# Altium footprint library Connector.PcbLib: 240 footprints (part 1 of 15)
Each footprint in its own frame and in the unit in brackets; x right, y up, seen from the top. Pads: shape width x height; smd on the part's side, far side on the other; paste and mask are expansions set on the pad; w line width, h text height; cw(c..) or ccw(c..) is an arc to the next point about the centre after c.
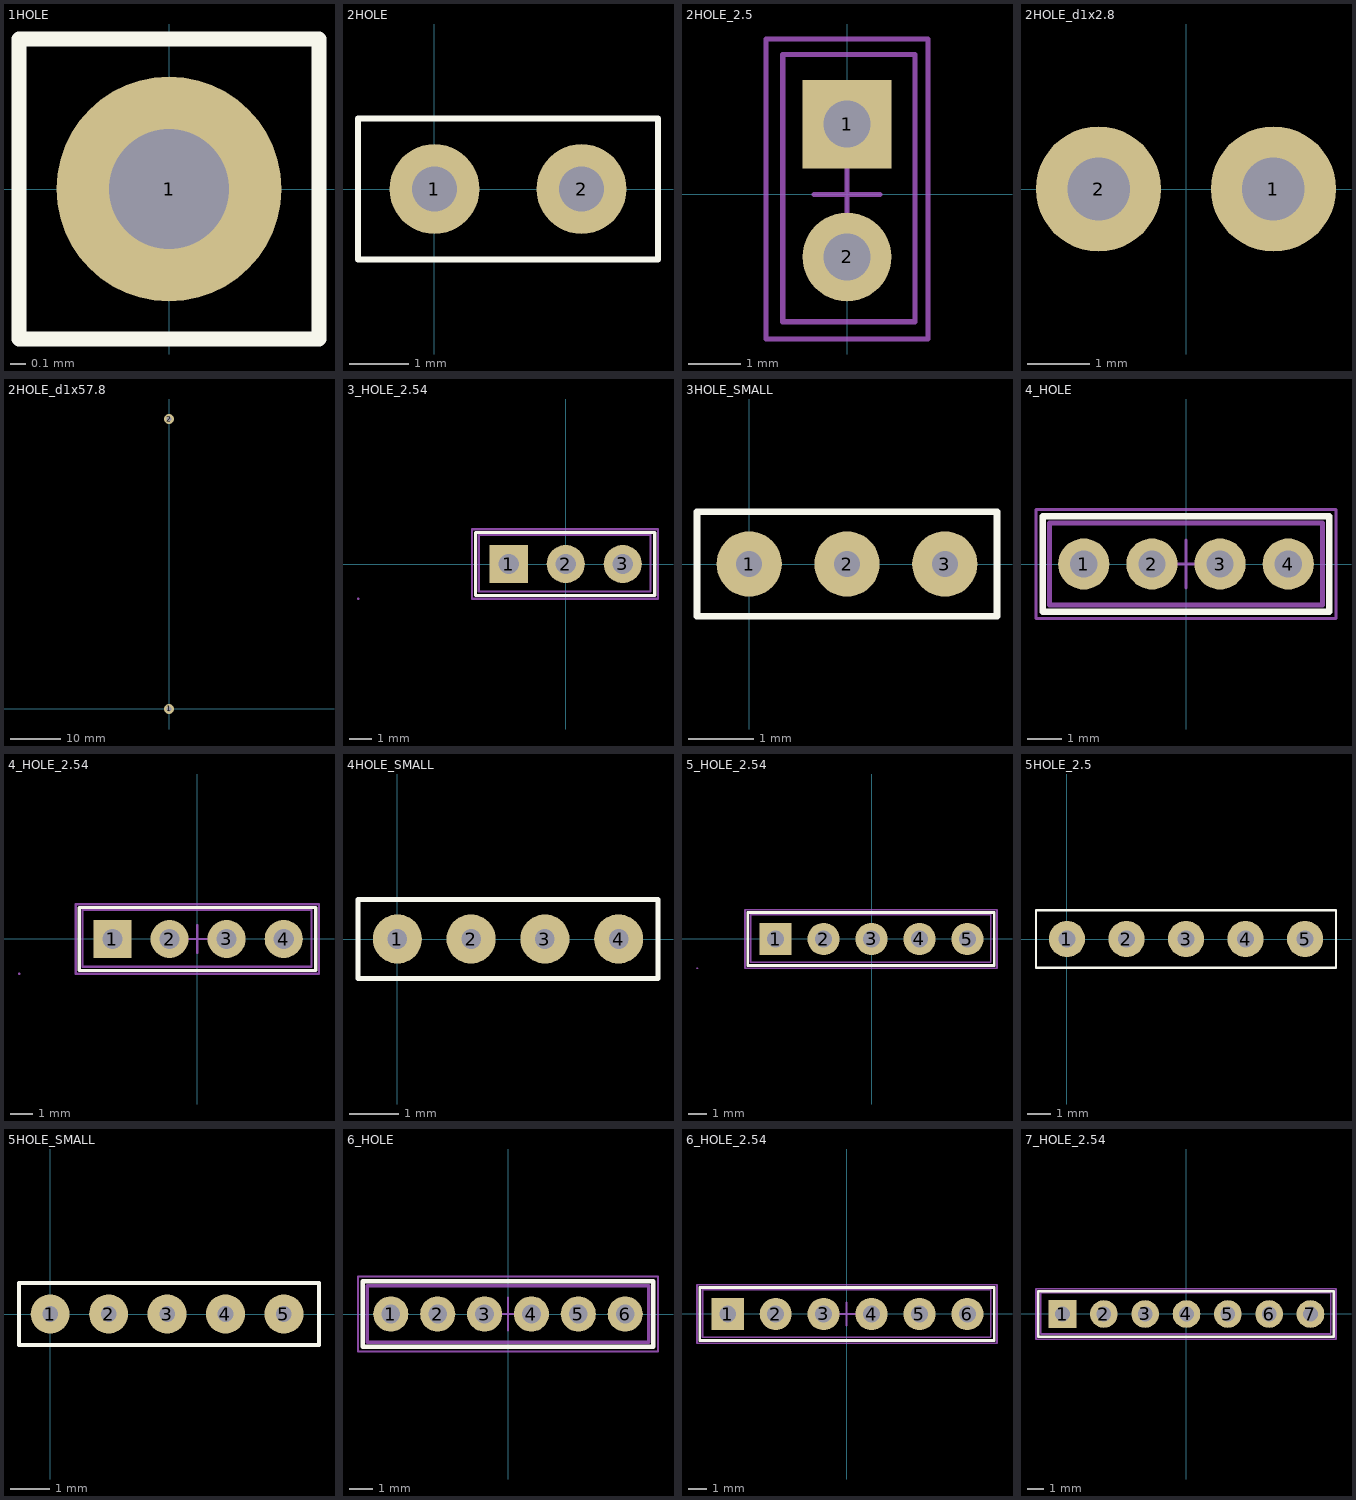
[diagram p0: the footprints below, top view; thin cyan lines are the x and y axes]

## 1HOLE [mm]
pads (1):
  round 1.5 hole 0.8: 1(0,0)
Top Overlay:
  lines w0.1: -1,-1 1,-1 1,1 -1,1 -1,-0.7 -1,-1

## 2HOLE [mil]
pads (2):
  round 60 hole 30: 1(0,0) 2(98.43,0)
Top Overlay:
  lines w3.94: -51.18,-47.24 149.61,-47.24 149.61,47.24 -51.18,47.24 -51.18,-39.37 -51.18,-47.24

## 2HOLE_2.5 [mm]
height 0.05
pads (2):
  rect 1.7x1.7 hole 0.9: 1(0,1.345)
  round 1.7 hole 0.9: 2(0,-1.195)
Mechanical 9:
  text ".Designator" at -5.25,3.75 h3.5
Mechanical 10:
  text ".Comment" at -2.5,-4.75 h2
Mechanical 11:
  lines w0.1: -1.23,-2.435 -1.23,2.68 1.3,2.68 1.3,-2.435 -1.23,-2.435
Mechanical 15:
  lines w0.1: -0.625,0 0.625,0 ; 0,-0.6 0,0.6 ; -1.55,-2.765 -1.55,2.95 -1.55,2.975 1.525,2.975 1.55,2.975 1.55,-2.765 -1.55,-2.765

## 2HOLE_d1x2.8 [mm]
pads (2):
  round 2 hole 1: 1(1.4,0) 2(-1.4,0)
Mechanical 9:
  text ".Designator" at -5,-5.5 h3
Mechanical 10:
  text ".Comment" at -3.05,-3.15 h2

## 2HOLE_d1x57.8 [mm]
pads (2):
  round 2 hole 1: 1(0,0) 2(0,57.8)
Mechanical 9:
  text ".Designator" at -5,-5.5 h3
Mechanical 10:
  text ".Comment" at -3.05,-3.15 h2

## 3_HOLE_2.54 [mm]
pads (3):
  rect 1.7x1.7 hole 0.9: 1(-2.54,0)
  round 1.7 hole 0.9: 2(0,0) 3(2.54,0)
Top Overlay:
  lines w0.15: -4.02,-1.4 -4.02,1.4 3.96,1.4 3.96,-1.4 -4.02,-1.4
Mechanical 9:
  text ".Designator" at -5.2,5.5 h3.5
Mechanical 10:
  text ".Comment" at -3.1,-5 h2
Mechanical 11:
  lines w0.1: -3.875,-1.23 3.78,-1.23 3.78,1.3 -3.875,1.3 -3.875,-1.23
Mechanical 15:
  lines w0.1: -9.25,-1.55 -9.225,-1.55 ; -4.17,-1.55 -4.17,1.525 -4.17,1.55 4.11,1.55 4.11,-1.55 -4.145,-1.55 ; -0.6,0 0.6,0 ; 0,-0.625 0,0.625

## 3HOLE_SMALL [mm]
pads (3):
  round 1 hole 0.4: 1(0,0) 2(1.5,0) 3(3,0)
Top Overlay:
  lines w0.1: -0.8,-0.8 -0.8,-0.5 -0.8,0.8 3.8,0.8 3.8,-0.8 -0.8,-0.8

## 4_HOLE [mm]
pads (4):
  round 1.5 hole 0.8: 1(-3,0) 2(-1,0) 3(1,0) 4(3,0)
Top Overlay:
  lines w0.2: -4.2,-1.4 -4.2,1.4 4.2,1.4 4.2,-1.4 -4.2,-1.4
Mechanical 9:
  text ".Designator" at -5.2,5.5 h3.5
Mechanical 10:
  text ".Comment" at -3.1,-5 h2
Mechanical 11:
  lines w0.15: -4,-1.2 -4,1.2 4,1.2 4,-1.2 -4,-1.2
Mechanical 15:
  lines w0.1: -0.6,0 0.6,0 ; 0,-0.7 0,0.7 ; -4.4,-1.6 -4.4,1.6 4.4,1.6 4.4,-1.6 -4.4,-1.6

## 4_HOLE_2.54 [mm]
pads (4):
  rect 1.7x1.7 hole 0.9: 1(-3.77,0)
  round 1.7 hole 0.9: 2(-1.23,0) 3(1.31,0)
  round 1.7 hole 0.9 mask+0.102: 4(3.85,0)
Top Overlay:
  lines w0.15: -5.25,-1.4 5.27,-1.4 5.27,1.4 -5.25,1.4 -5.25,-1.4
Mechanical 9:
  text ".Designator" at -5.2,5.5 h3.5
Mechanical 10:
  text ".Comment" at -3.1,-5 h2
Mechanical 11:
  lines w0.1: -5.105,-1.23 -5.105,1.3 5.09,1.3 5.09,-1.23 -5.105,-1.23
Mechanical 15:
  lines w0.1: -7.925,-1.55 -7.9,-1.55 ; -5.4,-1.55 -5.4,1.525 -5.4,1.55 5.42,1.55 5.42,-1.55 -5.375,-1.55 ; -0.6,0 0.6,0 ; 0,-0.625 0,0.625

## 4HOLE_SMALL [mm]
pads (4):
  round 1 hole 0.4: 1(0,0) 2(1.5,0) 3(3,0) 4(4.5,0)
Top Overlay:
  lines w0.1: -0.8,-0.8 -0.8,-0.5 -0.8,0.8 5.3,0.8 5.3,-0.8 -0.8,-0.8

## 5_HOLE_2.54 [mm]
pads (5):
  rect 1.7x1.7 hole 0.9: 1(-5.08,0)
  round 1.7 hole 0.9: 2(-2.54,0) 3(0,0) 5(5.08,0)
  round 1.7 hole 0.9 mask+0.102: 4(2.54,0)
Top Overlay:
  lines w0.15: -6.56,-1.4 -6.56,1.4 6.5,1.4 6.5,-1.4 -6.56,-1.4
Mechanical 9:
  text ".Designator" at -5.2,5.5 h3.5
Mechanical 10:
  text ".Comment" at -3.1,-5 h2
Mechanical 11:
  lines w0.1: -6.415,-1.23 6.32,-1.23 6.32,1.3 -6.415,1.3 -6.415,-1.23
Mechanical 15:
  lines w0.1: -9.25,-1.55 -9.225,-1.55 ; -6.71,-1.55 -6.71,1.525 -6.71,1.55 6.65,1.55 6.65,-1.55 -6.685,-1.55 ; -0.6,0 0.6,0 ; 0,-0.625 0,0.625

## 5HOLE_2.5 [mil]
pads (5):
  round 60 hole 27.56: 1(0,0) 2(98.43,0) 3(196.85,0) 4(295.28,0) 5(393.7,0)
Top Overlay:
  lines w3.94: -51.18,-47.24 444.88,-47.24 444.88,47.24 -51.18,47.24 -51.18,-39.37 -51.18,-47.24

## 5HOLE_SMALL [mm]
pads (5):
  round 1 hole 0.4: 1(0,0) 2(1.5,0) 3(3,0) 4(4.5,0) 5(6,0)
Top Overlay:
  lines w0.1: -0.8,-0.8 -0.8,-0.5 -0.8,0.8 6.9,0.8 6.9,-0.8 -0.8,-0.8

## 6_HOLE [mm]
pads (6):
  round 1.5 hole 0.8: 1(-5,0) 2(-3,0) 3(-1,0) 4(1,0) 5(3,0) 6(5,0)
Top Overlay:
  lines w0.2: -6.2,-1.4 -6.2,1.4 6.2,1.4 6.2,-1.4 -6.2,-1.4
Mechanical 9:
  text ".Designator" at -5.2,5.5 h3.5
Mechanical 10:
  text ".Comment" at -3.1,-5 h2
Mechanical 11:
  lines w0.15: -6,-1.2 -6,1.2 6,1.2 6,-1.2 -6,-1.2
Mechanical 15:
  lines w0.1: -0.6,0 0.6,0 ; 0,-0.7 0,0.7 ; -6.4,-1.6 -6.4,1.6 6.4,1.6 6.4,-1.6 -6.4,-1.6

## 6_HOLE_2.54 [mm]
pads (6):
  rect 1.7x1.7 hole 0.9: 1(-6.295,0)
  round 1.7 hole 0.9: 2(-3.755,0) 3(-1.215,0) 5(3.865,0) 6(6.405,0)
  round 1.7 hole 0.9 mask+0.102: 4(1.325,0)
Top Overlay:
  lines w0.15: -7.775,-1.4 -7.775,1.4 7.825,1.4 7.825,-1.4 -7.775,-1.4
Mechanical 9:
  text ".Designator" at -5.2,5.5 h3.5
Mechanical 10:
  text ".Comment" at -3.1,-5 h2
Mechanical 11:
  lines w0.1: -7.63,-1.23 7.645,-1.23 7.645,1.3 -7.63,1.3 -7.63,-1.23
Mechanical 15:
  lines w0.1: -0.6,0 0.6,0 ; 0,-0.625 0,0.625 ; -7.925,-1.55 -7.9,-1.55 7.975,-1.55 7.975,1.55 -7.925,1.55 -7.925,1.525 -7.925,-1.55

## 7_HOLE_2.54 [mm]
pads (7):
  rect 1.7x1.7 hole 0.9: 1(-7.62,0)
  round 1.7 hole 0.9: 2(-5.08,0) 3(-2.54,0) 5(2.54,0) 6(5.08,0) 7(7.62,0)
  round 1.7 hole 0.9 mask+0.102: 4(0,0)
Top Overlay:
  lines w0.15: -9.1,-1.4 -9.1,1.4 9.04,1.4 9.04,-1.4 -9.1,-1.4
Mechanical 9:
  text ".Designator" at -5.2,5.5 h3.5
Mechanical 10:
  text ".Comment" at -3.1,-5 h2
Mechanical 11:
  lines w0.1: -8.955,-1.23 8.86,-1.23 8.86,1.3 -8.955,1.3 -8.955,-1.23
Mechanical 15:
  lines w0.1: -0.6,0 0.6,0 ; 0,-0.625 0,0.625 ; -9.25,-1.55 -9.225,-1.55 9.19,-1.55 9.19,1.55 -9.25,1.55 -9.25,1.525 -9.25,-1.55